# EAGLE library part UBO_PQ60_TPS2553DRVT (library EPS)
POWER-DISTRIBUTION SWITCHES
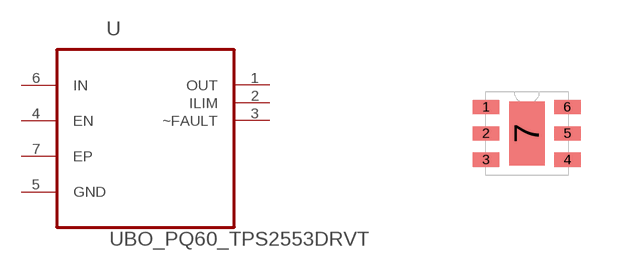
[diagram p10: symbol with the pads of UBO_PQ60_SON65P200X200X80-7N; footprint UBO_PQ60_SON65P200X200X80-7N]

Designator prefix U

## UBO_PQ60_TPS2553DRVT (MPN: TPS2553DRVT; OC_FARNELL: 1694427; OC_NEWARK: 40P3872; PACKAGE: SON-6; SUPPLIER: TEXAS INSTRUMENTS)  [UBO_PQ60_SON65P200X200X80-7N]
1  OUT  out
2  ILIM  out
3  ~FAULT  out
4  EN  in
5  GND  pas
6  IN  pwr
7  EP  pas

## Footprint UBO_PQ60_SON65P200X200X80-7N (pad centres in mm)
smd 0.66 x 0.356: 1 -1.016,0.66; 2 -1.016,0; 3 -1.016,-0.66; 4 1.016,-0.66; 5 1.016,0; 6 1.016,0.66
smd 0.889 x 1.6: 7 0,0